# Altium footprint library HDRV3W90P0X254_1X3_762X249X560P.PcbLib: 1 footprints
Each footprint in its own frame and in the unit in brackets; x right, y up, seen from the top. Pads: shape width x height; smd on the part's side, far side on the other; paste and mask are expansions set on the pad; w line width, h text height; cw(c..) or ccw(c..) is an arc to the next point about the centre after c.
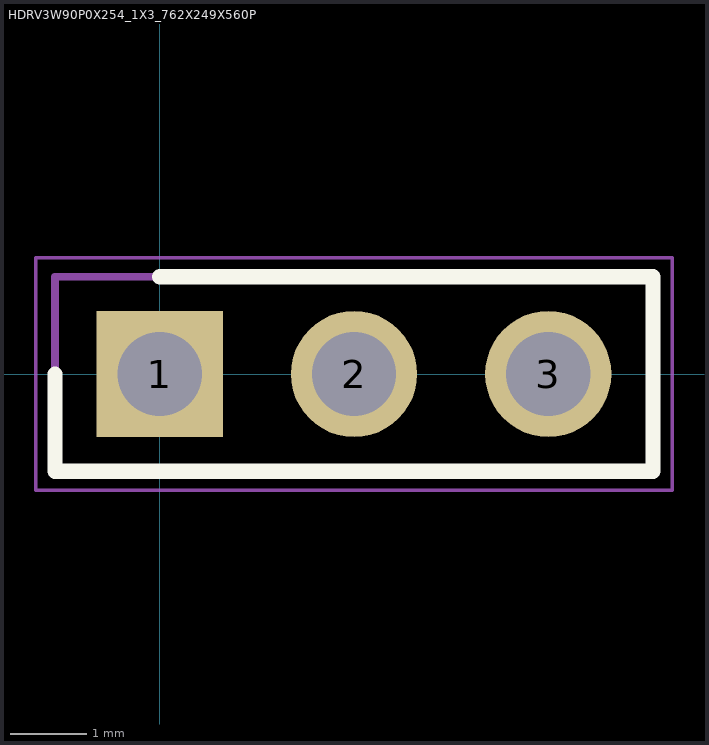
[diagram p0: the footprint, top view; thin cyan lines are the x and y axes]

## HDRV3W90P0X254_1X3_762X249X560P [mm]
pads (3):
  rect 1.65x1.65 / inner round 1.65 / far side rect 1.65x1.65 hole 1.1: 1(0,0)
  round 1.65 hole 1.1: 2(2.54,0) 3(5.08,0)
Top Overlay:
  lines w0.2: -1.37,0 -1.37,-1.27 6.45,-1.27 6.45,1.27 0,1.27
Mechanical 15:
  lines w0.1: -1.37,-1.27 -1.37,1.27 6.45,1.27 6.45,-1.27 -1.37,-1.27
Mechanical 20:
  lines w0.05: -1.62,-1.52 -1.62,1.52 6.7,1.52 6.7,-1.52 -1.62,-1.52